# Altium footprint library BNO055.PcbLib: 1 footprints
Each footprint in its own frame and in the unit in brackets; x right, y up, seen from the top. Pads: shape width x height; smd on the part's side, far side on the other; paste and mask are expansions set on the pad; w line width, h text height; cw(c..) or ccw(c..) is an arc to the next point about the centre after c.
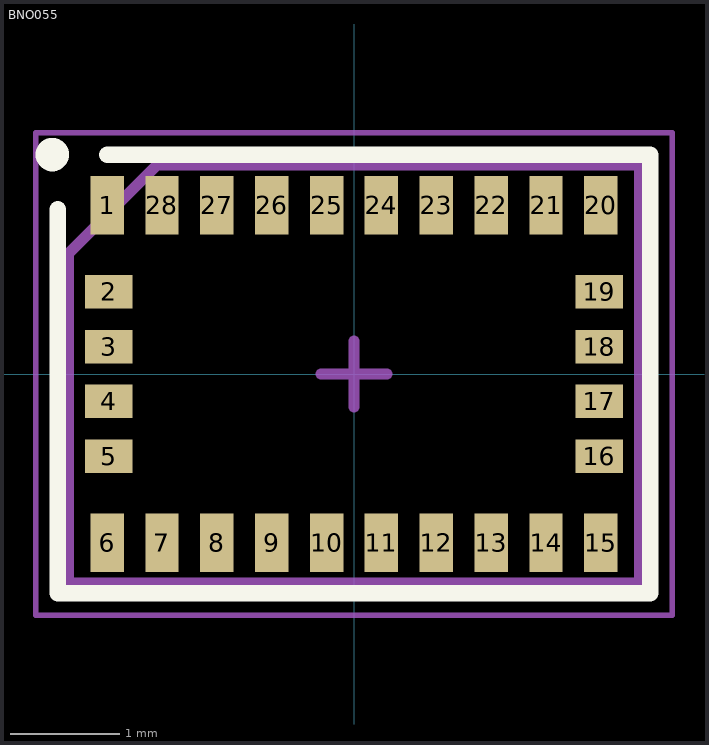
[diagram p0: the footprint, top view; thin cyan lines are the x and y axes]

## BNO055 [mil]
pads (28):
  rect 12x21 smd paste+0 mask+0: 1(-88.58,60.5) 6(-88.58,-60.5) 7(-68.9,-60.5) 8(-49.21,-60.5) 9(-29.53,-60.5) 10(-9.84,-60.5) 11(9.84,-60.5) 12(29.53,-60.5) 13(49.21,-60.5) 14(68.9,-60.5) 15(88.58,-60.5) 20(88.58,60.5) 21(68.9,60.5) 22(49.21,60.5) 23(29.53,60.5) 24(9.84,60.5) 25(-9.84,60.5) 26(-29.53,60.5) 27(-49.21,60.5) 28(-68.9,60.5)
  rect 17x12 smd: 2(-88,29.53) 3(-88,9.84) 4(-88,-9.84) 5(-88,-29.53) 16(88,-29.53) 17(88,-9.84) 18(88,9.84) 19(88,29.53)
Top Overlay:
  circle w10: c-108.27,78.74 r1
  lines w5.91: -106.3,59.06 -106.3,-78.74 106.3,-78.74 106.3,78.74 -88.58,78.74
Mechanical 1:
  lines w3.94: -102.5,-75 -102.5,43.17 -70.67,75 102.5,75 102.5,-75 -102.5,-75
  text ".Designator" at -89.57,-10.17 h25.59
Mechanical 2:
  lines w1.97: -114.17,-86.61 -114.17,86.61 114.17,86.61 114.17,-86.61 -114.17,-86.61
  lines w3.94: -11.81,0 11.81,0 ; 0,-11.81 0,11.81
3D body: height 10, standoff 0, extent -102.36,-74.8 102.36,74.8